# EAGLE library part 74CBTLV3257BQ,115 (library 74CBTLV3257BQ_115)
Encoders, Decoders, Multiplexers & Demultiplexers 8IN 2.3-3.6V 500 mW Source: Datasheet <https://assets.nexperia.com/documents/data-sheet/74CBTLV3257.pdf>
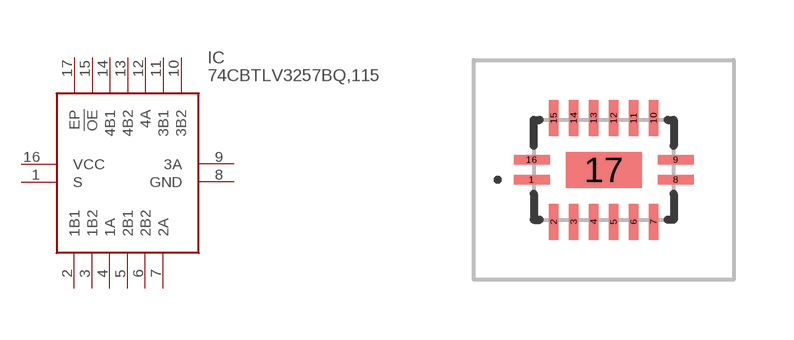
[diagram p0: symbol with the pads of 74CBTLV3257BQ115; footprint 74CBTLV3257BQ115]

Designator prefix IC

## 74CBTLV3257BQ,115 (Arrow_Part_Number: 74CBTLV3257BQ,115; Arrow_Price-Stock: https://www.arrow.com/en/products/74cbtlv3257bq115/nexperia?region=nac; Description: Encoders, Decoders, Multiplexers & Demultiplexers 8IN 2.3-3.6V 500 mW; Height: 1mm; Manufacturer_Name: Nexperia; Manufacturer_Part_Number: 74CBTLV3257BQ,115; Mouser_Part_Number: 771-74CBTLV3257BQ115; Mouser_Price-Stock: https://www.mouser.co.uk/ProductDetail/Nexperia/74CBTLV3257BQ115?qs=jquClx72t9Cqv7jLVFQulg%3D%3D)  [74CBTLV3257BQ115]
1  S
2  1B1
3  1B2
4  1A
5  2B1
6  2B2
7  2A
8  GND
9  3A
10  3B2
11  3B1
12  4A
13  4B2
14  4B1
15  !OE
16  VCC
17  EP

## Footprint 74CBTLV3257BQ115 (pad centres in mm)
74CBTLV3257BQ,115-2
smd 0.9 x 0.24: 1 -1.8,-0.25; 8 1.8,-0.25; 9 1.8,0.25; 16 -1.8,0.25
smd 0.24 x 0.9: 2 -1.25,-1.3; 3 -0.75,-1.3; 4 -0.25,-1.3; 5 0.25,-1.3; 6 0.75,-1.3; 7 1.25,-1.3; 10 1.25,1.3; 11 0.75,1.3; 12 0.25,1.3; 13 -0.25,1.3; 14 -0.75,1.3; 15 -1.25,1.3
smd 1.9 x 0.9: 17 0,0